# Altium footprint library SO24.PcbLib: 1 footprints
Each footprint in its own frame and in the unit in brackets; x right, y up, seen from the top. Pads: shape width x height; smd on the part's side, far side on the other; paste and mask are expansions set on the pad; w line width, h text height; cw(c..) or ccw(c..) is an arc to the next point about the centre after c.
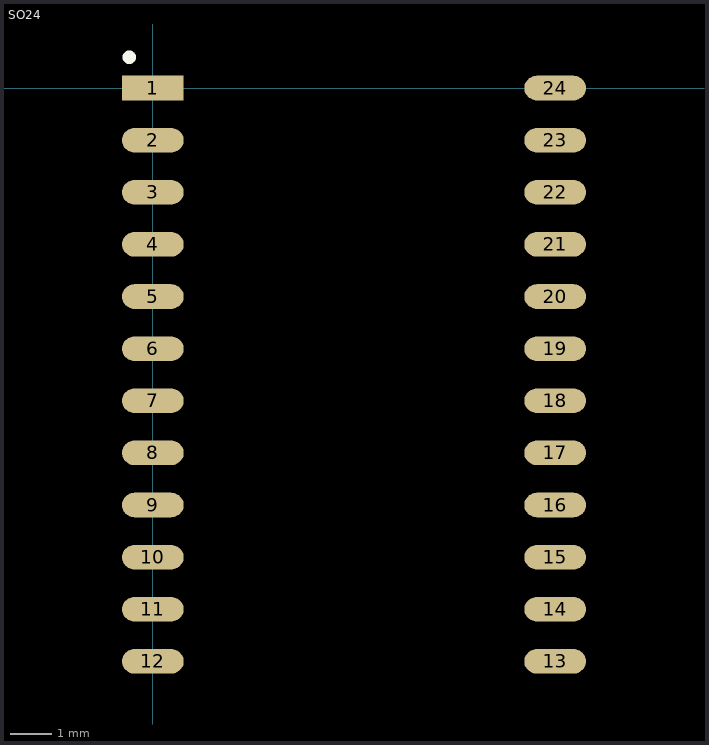
[diagram p0: the footprint, top view; thin cyan lines are the x and y axes]

## SO24 [mm]
pads (24):
  rect 1.5x0.6 smd: 1(0,0)
  oval 1.5x0.6 smd: 2(0,-1.27) 3(0,-2.54) 4(0,-3.81) 5(0,-5.08) 6(0,-6.35) 7(0,-7.62) 8(0,-8.89) 9(0,-10.16) 10(0,-11.43) 11(0,-12.7) 12(0,-13.97) 13(9.8,-13.97) 14(9.8,-12.7) 15(9.8,-11.43) 16(9.8,-10.16) 17(9.8,-8.89) 18(9.8,-7.62) 19(9.8,-6.35) 20(9.8,-5.08) 21(9.8,-3.81) 22(9.8,-2.54) 23(9.8,-1.27) 24(9.8,0)
Top Overlay:
  circle w0.254: c-0.575,0.75 r0.035
3D body "SOT137-1.step": height 2.56, standoff 0.02, extent -0.268,-14.675 10.068,0.725